# EAGLE library part 8256AH (library micro-intel)
MICROCOMPUTER/PERIPHERAL DEVICE
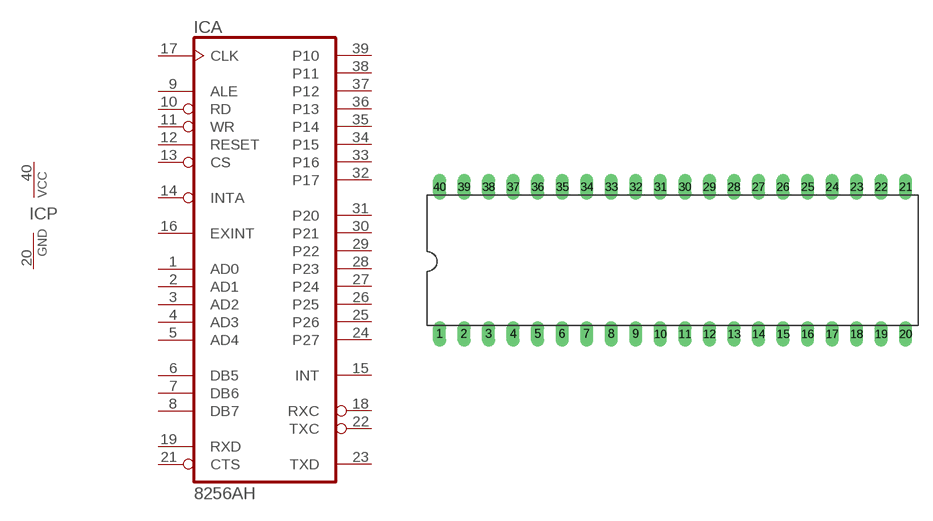
[diagram p42: symbol with the pads of DIL40; footprint DIL40]

Designator prefix IC; gates A=8256AH P=PWRN

## 8256AH  [DIL40]
1  A:AD0
2  A:AD1
3  A:AD2
4  A:AD3
5  A:AD4
6  A:DB5
7  A:DB6
8  A:DB7
9  A:ALE  in
10  A:RD  in
11  A:WR  in
12  A:RESET  in
13  A:CS  in
14  A:INTA  in
15  A:INT  out
16  A:EXINT  in
17  A:CLK  in
18  A:RXC
19  A:RXD  in
20  P:GND  pwr
21  A:CTS  in
22  A:TXC
23  A:TXD  out
24  A:P27
25  A:P26
26  A:P25
27  A:P24
28  A:P23
29  A:P22
30  A:P21
31  A:P20
32  A:P17
33  A:P16
34  A:P15
35  A:P14
36  A:P13
37  A:P12
38  A:P11
39  A:P10
40  P:VCC  pwr

## Footprint DIL40 (pad centres in mm)
Dual In Line Package
drill 0.813 long: 1 -24.13,-7.62; 2 -21.59,-7.62; 3 -19.05,-7.62; 4 -16.51,-7.62; 5 -13.97,-7.62; 6 -11.43,-7.62; 7 -8.89,-7.62; 8 -6.35,-7.62; 9 -3.81,-7.62; 10 -1.27,-7.62; 11 1.27,-7.62; 12 3.81,-7.62; 13 6.35,-7.62; 14 8.89,-7.62; 15 11.43,-7.62; 16 13.97,-7.62; 17 16.51,-7.62; 18 19.05,-7.62; 19 21.59,-7.62; 20 24.13,-7.62; 21 24.13,7.62; 22 21.59,7.62; 23 19.05,7.62; 24 16.51,7.62; 25 13.97,7.62; 26 11.43,7.62; 27 8.89,7.62; 28 6.35,7.62; 29 3.81,7.62; 30 1.27,7.62; 31 -1.27,7.62; 32 -3.81,7.62; 33 -6.35,7.62; 34 -8.89,7.62; 35 -11.43,7.62; 36 -13.97,7.62; 37 -16.51,7.62; 38 -19.05,7.62; 39 -21.59,7.62; 40 -24.13,7.62